# EAGLE library part LTC4150 (library mike-temp)
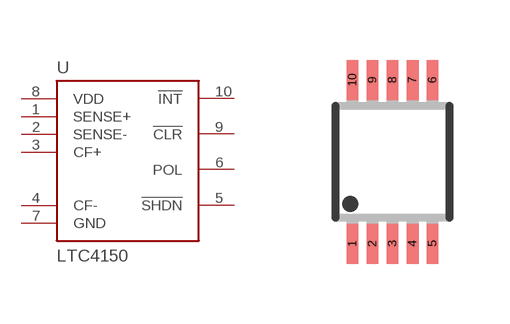
[diagram p34: symbol with the pads of MSOP10; footprint MSOP10]

Designator prefix U

## LTC4150  [MSOP10]
1  SENSE+
2  SENSE-
3  CF+
4  CF-
5  !SHDN!  in
6  POL
7  GND  pwr
8  VDD  pwr
9  !CLR!
10  !INT!

## Footprint MSOP10 (pad centres in mm)
10 Lead Platic MSOP Source: http://www.linear.com .. LT1996
smd 0.3 x 1: 1 -1,-2.05; 2 -0.5,-2.05; 3 0,-2.05; 4 0.5,-2.05; 5 1,-2.05; 6 1,2.05; 7 0.5,2.05; 8 0,2.05; 9 -0.5,2.05; 10 -1,2.05